# EAGLE library part 690368181472 (library Wuerth_Elektronik_eiCan_MiniModule_Connectors_v1.2)
WR-MM Female Angled Connector without Latch and without Polarization, 14 Pins
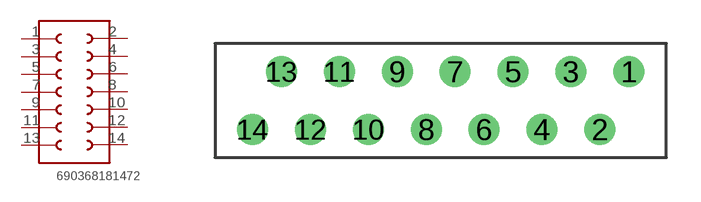
[diagram p16: symbol with the pads of 690368181472; footprint 690368181472]

Designator prefix K

## 690368181472  [690368181472]
1  1  pas
2  14  pas
3  2  pas
4  13  pas
5  3  pas
6  12  pas
7  4  pas
8  11  pas
9  5  pas
10  10  pas
11  6  pas
12  9  pas
13  7  pas
14  8  pas

## Footprint 690368181472 (pad centres in mm)
WR-MM Female Angled Connector without Latch and without Polarization, 14 Pins
drill 0.85 round: 1 6.985,1.27; 2 5.715,-1.27; 3 4.445,1.27; 4 3.175,-1.27; 5 1.905,1.27; 6 0.635,-1.27; 7 -0.635,1.27; 8 -1.905,-1.27; 9 -3.175,1.27; 10 -4.445,-1.27; 11 -5.715,1.27; 12 -6.985,-1.27; 13 -8.255,1.27; 14 -9.525,-1.27